# Altium footprint library IMTP TI.PcbLib: 5 footprints
Each footprint in its own frame and in the unit in brackets; x right, y up, seen from the top. Pads: shape width x height; smd on the part's side, far side on the other; paste and mask are expansions set on the pad; w line width, h text height; cw(c..) or ccw(c..) is an arc to the next point about the centre after c.
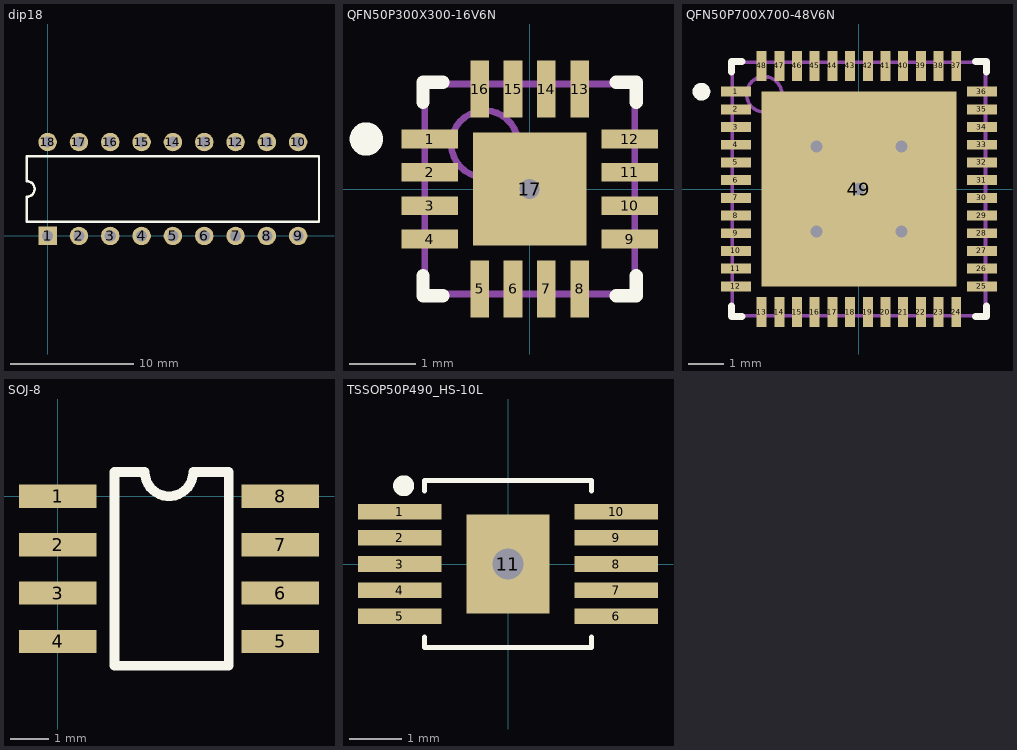
[diagram p0: the footprints below, top view; thin cyan lines are the x and y axes]

## dip18 [mm]
pads (18):
  rect 1.5x1.5 hole 0.9: 1(0,0)
  round 1.5 hole 0.9: 2(2.54,0) 3(5.08,0) 4(7.62,0) 5(10.16,0) 6(12.7,0) 7(15.24,0) 8(17.78,0) 9(20.32,0) 10(20.32,7.62) 11(17.78,7.62) 12(15.24,7.62) 13(12.7,7.62) 14(10.16,7.62) 15(7.62,7.62) 16(5.08,7.62) 17(2.54,7.62) 18(0,7.62)
Top Overlay:
  lines w0.2: -1.69,1.16 -1.69,3.175 ccw(c-1.69,3.81) -1.69,4.445 -1.69,6.46 22.01,6.46 22.01,1.16 -1.69,1.16
3D body: height 5.08, standoff -2.49, extent -1.335,-0.148 21.655,7.722

## QFN50P300X300-16V6N [mm] "QFN, 16-Leads, Body 3x3mm, Pitch 0.5mm, IPC Medium Density"
height 1
pads (17):
  rect 0.85x0.28 smd: 1(-1.5,0.75) 2(-1.5,0.25) 3(-1.5,-0.25) 4(-1.5,-0.75) 9(1.5,-0.75) 10(1.5,-0.25) 11(1.5,0.25) 12(1.5,0.75)
  rect 0.28x0.85 smd: 5(-0.75,-1.5) 6(-0.25,-1.5) 7(0.25,-1.5) 8(0.75,-1.5) 13(0.75,1.5) 14(0.25,1.5) 15(-0.25,1.5) 16(-0.75,1.5)
  rect 1.7x1.7 smd: 17(0,0)
via 0,0 diameter 0.6 hole 0.3
Top Overlay:
  circle w0.25: c-2.45,0.75 r0.125
  lines w0.2: -1.6,-1.3 -1.6,-1.6 -1.3,-1.6 ; -1.6,1.3 -1.6,1.6 -1.3,1.6 ; 1.3,-1.6 1.6,-1.6 1.6,-1.3 ; 1.3,1.6 1.6,1.6 1.6,1.3
Mechanical 13:
  circle w0.1: c-0.675,0.675 r0.5
  lines w0.1: -1.575,-1.575 -1.575,1.575 1.575,1.575 1.575,-1.575 -1.575,-1.575
3D body: height 1, standoff 0, extent -1.575,-1.575 1.575,1.575

## QFN50P700X700-48V6N [mm] "QFN, 48-Leads, Body 7x7mm, Pitch 0.5mm, IPC Medium Density"
height 1
pads (49):
  rect 0.85x0.28 smd: 1(-3.475,2.75) 2(-3.475,2.25) 3(-3.475,1.75) 4(-3.475,1.25) 5(-3.475,0.75) 6(-3.475,0.25) 7(-3.475,-0.25) 8(-3.475,-0.75) 9(-3.475,-1.25) 10(-3.475,-1.75) 11(-3.475,-2.25) 12(-3.475,-2.75) 25(3.475,-2.75) 26(3.475,-2.25) 27(3.475,-1.75) 28(3.475,-1.25) 29(3.475,-0.75) 30(3.475,-0.25) 31(3.475,0.25) 32(3.475,0.75) 33(3.475,1.25) 34(3.475,1.75) 35(3.475,2.25) 36(3.475,2.75)
  rect 0.28x0.85 smd: 13(-2.75,-3.475) 14(-2.25,-3.475) 15(-1.75,-3.475) 16(-1.25,-3.475) 17(-0.75,-3.475) 18(-0.25,-3.475) 19(0.25,-3.475) 20(0.75,-3.475) 21(1.25,-3.475) 22(1.75,-3.475) 23(2.25,-3.475) 24(2.75,-3.475) 37(2.75,3.475) 38(2.25,3.475) 39(1.75,3.475) 40(1.25,3.475) 41(0.75,3.475) 42(0.25,3.475) 43(-0.25,3.475) 44(-0.75,3.475) 45(-1.25,3.475) 46(-1.75,3.475) 47(-2.25,3.475) 48(-2.75,3.475)
  rect 5.5x5.5 smd: 49(0,0)
via 1.2,-1.2 diameter 0.66 hole 0.33
via -1.2,-1.2 diameter 0.66 hole 0.33
via 1.2,1.2 diameter 0.66 hole 0.33
via -1.2,1.2 diameter 0.66 hole 0.33
via 0,0 diameter 0.66 hole 0.33
Top Overlay:
  circle w0.25: c-4.45,2.75 r0.125
  lines w0.2: -3.6,-3.3 -3.6,-3.6 -3.3,-3.6 ; -3.6,3.3 -3.6,3.6 -3.3,3.6 ; 3.3,-3.6 3.6,-3.6 3.6,-3.3 ; 3.3,3.6 3.6,3.6 3.6,3.3
Mechanical 13:
  circle w0.1: c-2.675,2.675 r0.5
  lines w0.1: -3.575,-3.575 3.575,-3.575 3.575,3.575 -3.575,3.575 -3.575,-3.575
3D body: height 1, standoff 0, extent -3.575,-3.575 3.575,3.575

## SOJ-8 [mil]
pads (8):
  rect 80x24 smd: 1(0,0) 2(0,-50) 3(0,-100) 4(0,-150) 5(230,-150) 6(230,-100) 7(230,-50) 8(230,0)
Top Overlay:
  lines w10: 58.74,-175 176.85,-175 176.85,25 140,25 cw(c115,25) 90,25 58.74,25 58.74,-175
3D body: height 74.5, standoff -0.39, extent -9.78,-174 239.78,23

## TSSOP50P490_HS-10L [mm] "TSSOP, 10-Leads, Body 3x3mm, Pitch 0.5mm, Exposed Pad, IPC High Density"
height 1.1
pads (11):
  rect 1.6x0.3 smd: 1(-2.075,1) 2(-2.075,0.5) 3(-2.075,0) 4(-2.075,-0.5) 5(-2.075,-1) 6(2.075,-1) 7(2.075,-0.5) 8(2.075,0) 9(2.075,0.5) 10(2.075,1)
  rect 1.6x1.9 smd: 11(0,0)
via 0,0 diameter 1 hole 0.6
Top Overlay:
  circle w0.2: c-2,1.5 r0.1
  lines w0.1: -1.6,-1.4 -1.6,-1.6 1.6,-1.6 1.6,-1.4 ; -1.6,1.4 -1.6,1.6 1.6,1.6 1.6,1.4
Mechanical 15:
  lines w0.1: -0.5,0 0.5,0 ; 0,-0.5 0,0.5
3D body: height 1.1, standoff 0.05, extent -1.6,-1.6 1.6,1.6